# Altium footprint library JST XH SMD 2.5mm 6-pos.PcbLib: 1 footprints
Each footprint in its own frame and in the unit in brackets; x right, y up, seen from the top. Pads: shape width x height; smd on the part's side, far side on the other; paste and mask are expansions set on the pad; w line width, h text height; cw(c..) or ccw(c..) is an arc to the next point about the centre after c.
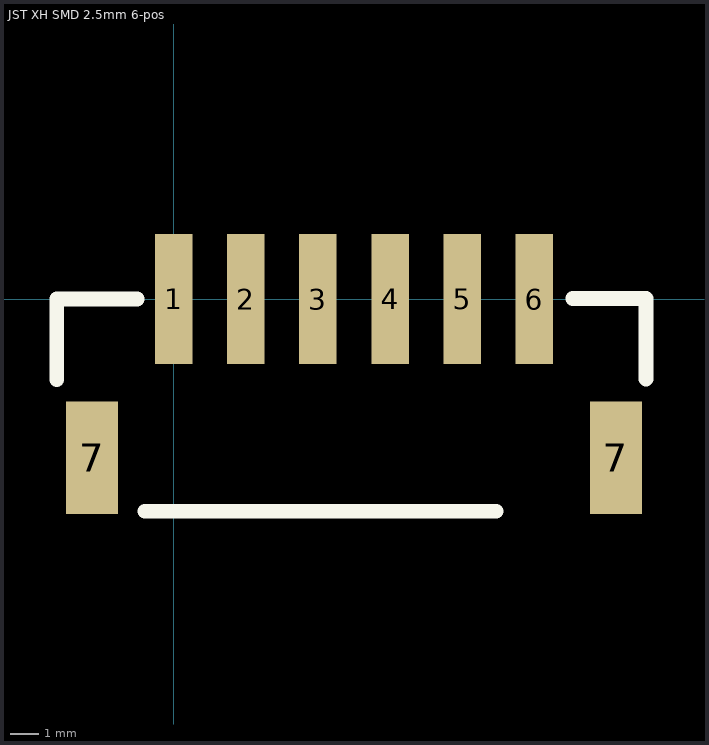
[diagram p0: the footprint, top view; thin cyan lines are the x and y axes]

## JST XH SMD 2.5mm 6-pos [mm]
pads (8):
  rect 1.3x4.5 smd: 1(0,0) 2(2.5,0) 3(5,0) 4(7.5,0) 5(10,0) 6(12.5,0)
  rect 1.8x3.9 smd: 7(-2.84,-5.5) 7(15.34,-5.5)
Top Overlay:
  lines w0.508: -4.064,-2.794 -4.064,0 -1.27,0 ; -1.016,-7.366 11.176,-7.366 ; 13.843,0.02 16.383,0.02 16.383,-2.774
3D body "JST - XH - SMD (R) - 6Pin - 2.54mm.stp": height 5.92, standoff 0, extent -3.924,-7.747 16.37,2.159